# EAGLE library part DIP_SW_8P (library F030NG)
DIP Switch 8 pole by CTS
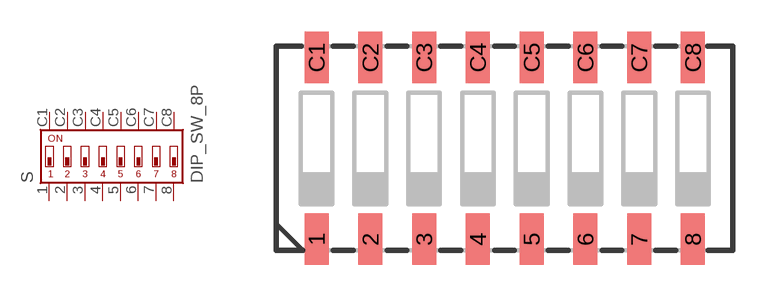
[diagram p67: symbol with the pads of CTS-214-08/SPST; footprint CTS-214-08/SPST]

Designator prefix S

## DIP_SW_8PSPST  [CTS-214-08/SPST]
1  1  pas
2  2  pas
3  3  pas
4  4  pas
5  5  pas
6  6  pas
7  7  pas
8  8  pas
C1  C1  pas
C2  C2  pas
C3  C3  pas
C4  C4  pas
C5  C5  pas
C6  C6  pas
C7  C7  pas
C8  C8  pas

## Footprint CTS-214-08/SPST (pad centres in mm)
Surface Mount DIP Switch Series 219 SMT "J" Bend CTS Electronic Components Sourc: www.ctscorp.com
smd 1.13 x 2.44: 1 -1.27,-4.3; 2 1.27,-4.3; 3 3.81,-4.3; 4 6.35,-4.3; 5 8.89,-4.3; 6 11.43,-4.3; 7 13.97,-4.3; 8 16.51,-4.3; C1 -1.27,4.3; C2 1.27,4.3; C3 3.81,4.3; C4 6.35,4.3; C5 8.89,4.3; C6 11.43,4.3; C7 13.97,4.3; C8 16.51,4.3